# EAGLE library part SPARK_M.2EKEY (library SomTest1)
$1.42 CONN FEMALE 67POS 0.020 GOLD TE Connectivity AMP Connectors 2199230-4 https://www.digikey.com/product-detail/en/te-connectivity-amp-connectors/2199230-4/A115904CT-ND/4208916
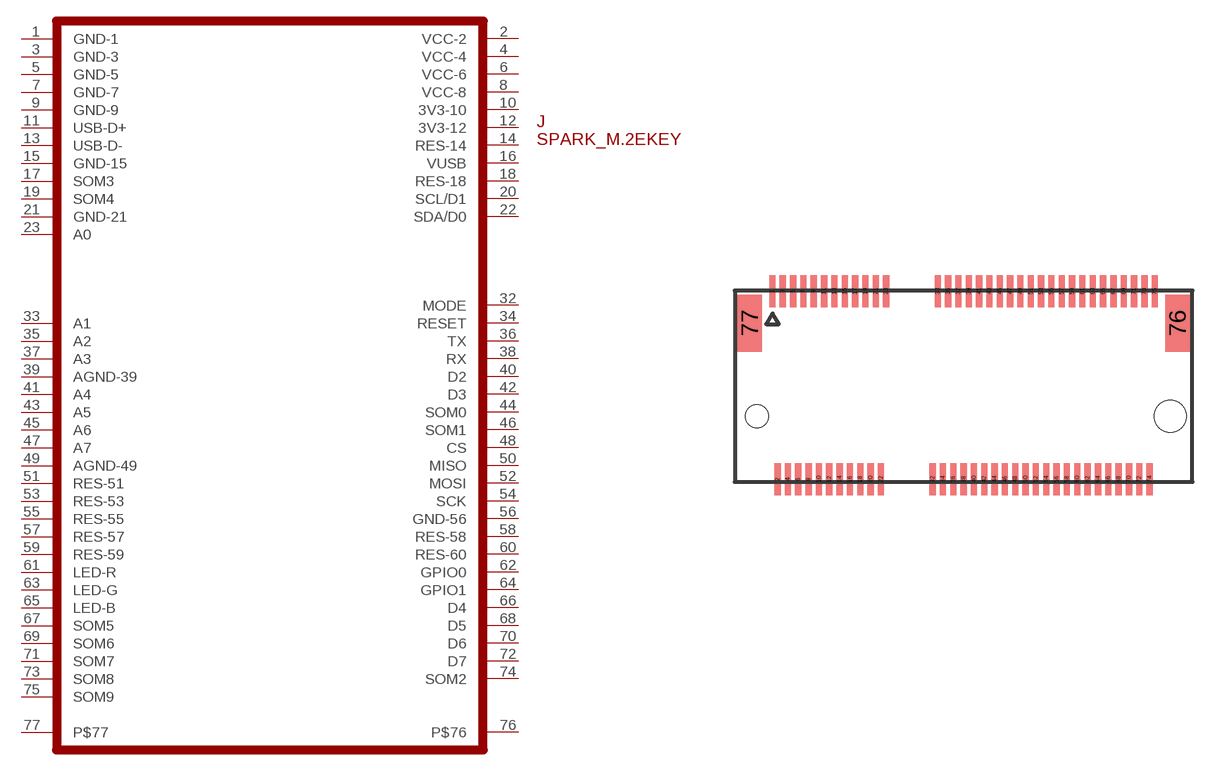
[diagram p3: symbol with the pads of SPARK_M.2EKEY-LESS-CREAM; footprint SPARK_M.2EKEY-LESS-CREAM]

Designator prefix J

## SPARK_M.2EKEY  [SPARK_M.2EKEY-LESS-CREAM]
1  GND-1
2  VCC-2
3  GND-3
4  VCC-4
5  GND-5
6  VCC-6
7  GND-7
8  VCC-8
9  GND-9
10  3V3-10
11  USB-D+
12  3V3-12
13  USB-D-
14  RES-14
15  GND-15
16  VUSB
17  SOM3
18  RES-18
19  SOM4
20  SCL/D1
21  GND-21
22  SDA/D0
23  A0
32  MODE
33  A1
34  RESET
35  A2
36  TX
37  A3
38  RX
39  AGND-39
40  D2
41  A4
42  D3
43  A5
44  SOM0
45  A6
46  SOM1
47  A7
48  CS
49  AGND-49
50  MISO
51  RES-51
52  MOSI
53  RES-53
54  SCK
55  RES-55
56  GND-56
57  RES-57
58  RES-58
59  RES-59
60  RES-60
61  LED-R
62  GPIO0
63  LED-G
64  GPIO1
65  LED-B
66  D4
67  SOM5
68  D5
69  SOM6
70  D6
71  SOM7
72  D7
73  SOM8
74  SOM2
75  SOM9
76  P$76  pwr
77  P$77  pwr

## Footprint SPARK_M.2EKEY-LESS-CREAM (pad centres in mm)
smd 0.3 x 1.55: 1 -9.62,4.51; 2 -9.37,-4.59; 3 -9.12,4.51; 4 -8.87,-4.59; 5 -8.62,4.51; 6 -8.37,-4.59; 7 -8.12,4.51; 8 -7.87,-4.59; 9 -7.62,4.51; 10 -7.37,-4.59; 11 -7.12,4.51; 12 -6.87,-4.59; 13 -6.62,4.51; 14 -6.37,-4.59; 15 -6.12,4.51; 16 -5.87,-4.59; 17 -5.62,4.51; 18 -5.37,-4.59; 19 -5.12,4.51; 20 -4.87,-4.59; 21 -4.62,4.51; 22 -4.37,-4.59; 23 -4.12,4.51; 32 -1.87,-4.59; 33 -1.62,4.51; 34 -1.37,-4.59; 35 -1.12,4.51; 36 -0.87,-4.59; 37 -0.62,4.51; 38 -0.37,-4.59; 39 -0.12,4.51; 40 0.13,-4.59; 41 0.38,4.51; 42 0.63,-4.59; 43 0.88,4.51; 44 1.13,-4.59; 45 1.38,4.51; 46 1.63,-4.59; 47 1.88,4.51; 48 2.13,-4.59; 49 2.38,4.51; 50 2.63,-4.59; 51 2.88,4.51; 52 3.13,-4.59; 53 3.38,4.51; 54 3.63,-4.59; 55 3.88,4.51; 56 4.13,-4.59; 57 4.38,4.51; 58 4.63,-4.59; 59 4.88,4.51; 60 5.13,-4.59; 61 5.38,4.51; 62 5.63,-4.59; 63 5.88,4.51; 64 6.13,-4.59; 65 6.38,4.51; 66 6.63,-4.59; 67 6.88,4.51; 68 7.13,-4.59; 69 7.38,4.51; 70 7.63,-4.59; 71 7.88,4.51; 72 8.13,-4.59; 73 8.38,4.51; 74 8.63,-4.59; 75 8.88,4.51
smd 1.2 x 2.75: 76 9.98,2.96; 77 -10.72,2.96
hole 1.1 at -10.37,-1.54
hole 1.55 at 9.63,-1.54